# Altium schematic symbol library LM2831YMF.SchLib: 1 symbol
Pins are listed as number, name and electrical type; pins without a type are passive.

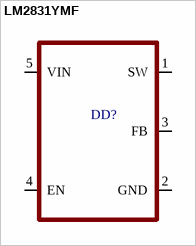
[diagram p0: symbol LM2831YMF]

## LM2831YMF
designator DD?
pins: 1 SW, 2 GND, 3 FB, 4 EN, 5 VIN